# Altium footprint library RESDFN3_380X370X120L120X120.PcbLib: 1 footprints
Each footprint in its own frame and in the unit in brackets; x right, y up, seen from the top. Pads: shape width x height; smd on the part's side, far side on the other; paste and mask are expansions set on the pad; w line width, h text height; cw(c..) or ccw(c..) is an arc to the next point about the centre after c.
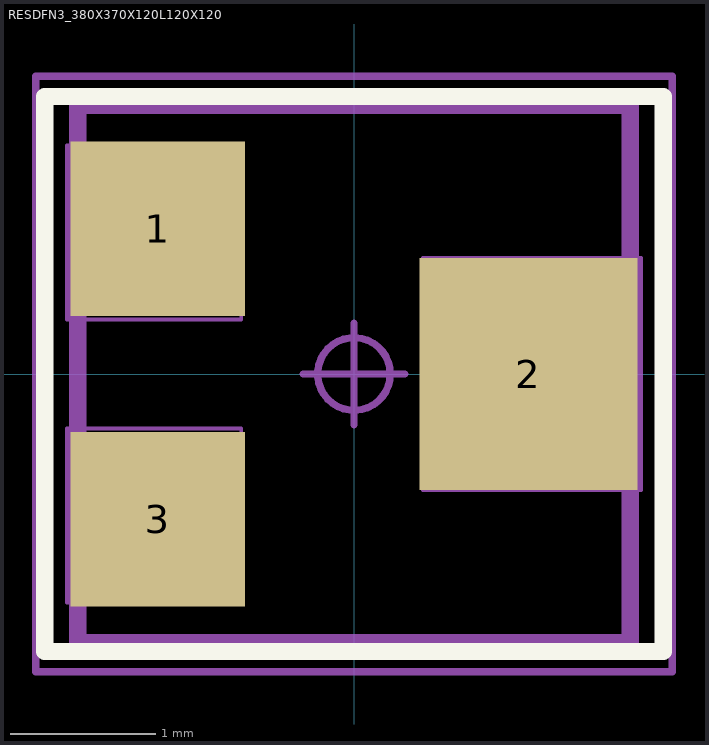
[diagram p0: the footprint, top view; thin cyan lines are the x and y axes]

## RESDFN3_380X370X120L120X120 [mm] "Resistor, Dual Flat No-Lead, 2.60 mm Pitch, 3 pin; 3.80 mm L X 3.70 mm W X 1.20 mm H body"
height 1.2
pads (3):
  rect 1.2x1.2 smd: 1(-1.35,1) 3(-1.35,-1)
  rect 1.5x1.6 smd paste-1.6: 2(1.2,0)
Top Overlay:
  lines w0.12: -2.13,-1.91 2.13,-1.91 2.13,1.91 -2.13,1.91 -2.13,-1.91
Top Paste:
  region: 1.09,0.11 0.56,0.11 0.56,0.69 1.09,0.69
  region: 1.09,-0.69 0.56,-0.69 0.56,-0.11 1.09,-0.11
  region: 1.84,0.11 1.31,0.11 1.31,0.69 1.84,0.69
  region: 1.84,-0.69 1.31,-0.69 1.31,-0.11 1.84,-0.11
Mechanical 3:
  lines w0.12: -1.9,-1.85 1.9,-1.85 1.9,1.85 -1.9,1.85 -1.9,-1.85
Mechanical 5:
  lines w0.025: -1.975,-1.575 -1.975,-0.375 -0.775,-0.375 -0.775,-1.575 -1.975,-1.575 ; -1.975,0.375 -1.975,1.575 -0.775,1.575 -0.775,0.375 -1.975,0.375 ; 0.475,-0.8 0.475,0.8 1.975,0.8 1.975,-0.8 0.475,-0.8
Mechanical 7:
  circle w0.05: c0,0 r0.25
  lines w0.025: -1.9,-1.85 1.9,-1.85 1.9,1.85 -1.9,1.85 -1.9,-1.85
  lines w0.05: -0.35,0 0.35,0 ; 0,-0.35 0,0.35 ; -2.19,-2.05 -2.19,2.05 2.19,2.05 2.19,-2.05 -2.19,-2.05
3D body "RESDFN3_380X370X120L120X120.STEP": height 1.2, standoff 0, extent -1.975,-1.85 1.975,1.85